# Altium schematic symbol library Fuse.SchLib: 3 symbols
Pins are listed as number, name and electrical type; pins without a type are passive.

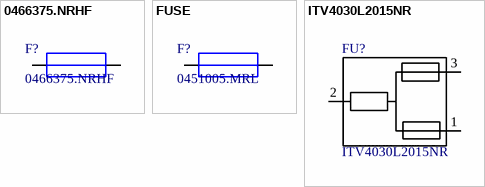
[diagram p0: symbols 0466375.NRHF to ITV4030L2015NR]

## 0466375.NRHF
designator F?
466 Series 1206 Fast-Acting Fuse
footprint FUSE 1206
pins: 1, 2

## FUSE
designator F?, comment 0451005.MRL
Surface Mount Fuses 125VAC 5A .0125ohms
footprint FUSE
pins: 1, 2

## ITV4030L2015NR
designator FU?
- Disposable fuses ROHS
footprint ITV4030L2015NR
pins: 1, 2, 3